# EAGLE library part JS202011SCQN (library wicked-device)
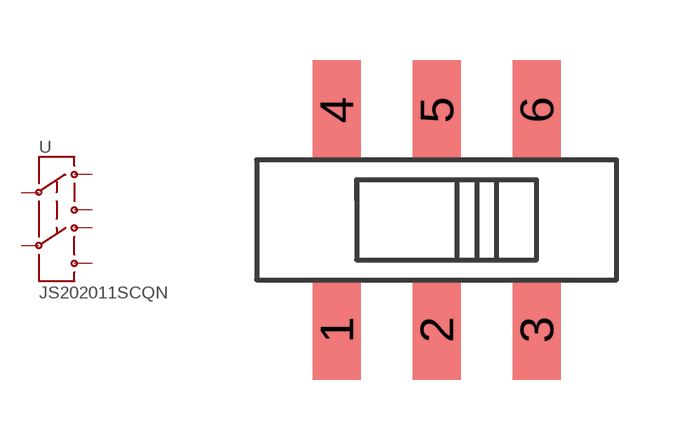
[diagram p14: symbol with the pads of JS202011SCQN; footprint JS202011SCQN]

Designator prefix -

## JS202011SCQN  [JS202011SCQN]
1  A1
2  C1
3  B1
4  A2
5  C2
6  B2

## Footprint JS202011SCQN (pad centres in mm)
smd 1.2 x 2.5: 1 -2.5,-2.75; 2 0,-2.75; 3 2.5,-2.75; 4 -2.5,2.75; 5 0,2.75; 6 2.5,2.75